# Altium footprint library WE-DPC.PcbLib: 3 footprints
Each footprint in its own frame and in the unit in brackets; x right, y up, seen from the top. Pads: shape width x height; smd on the part's side, far side on the other; paste and mask are expansions set on the pad; w line width, h text height; cw(c..) or ccw(c..) is an arc to the next point about the centre after c.
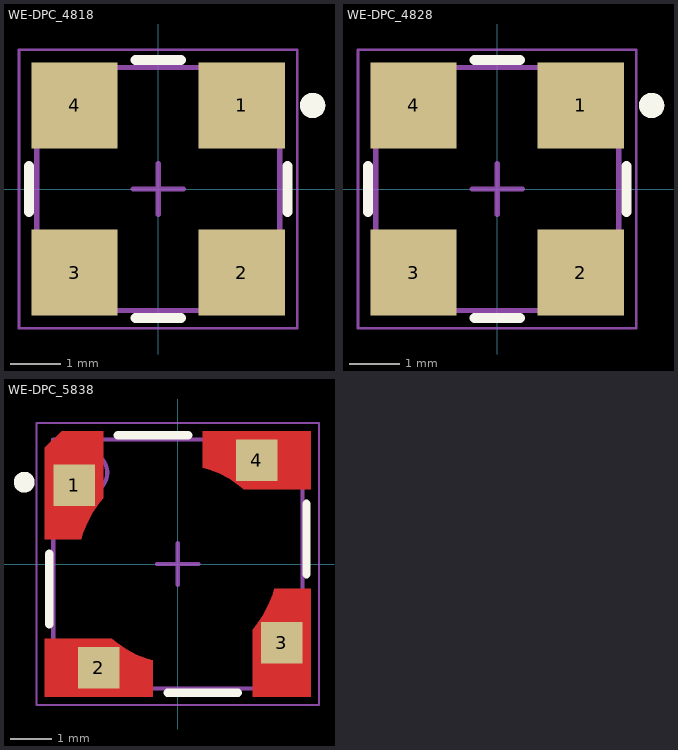
[diagram p0: the footprints below, top view; thin cyan lines are the x and y axes]

## WE-DPC_4818 [mm] "SMD Dual Powerchoke, 4-leads, body 4.8x4.8mm"
height 1.8
pads (4):
  rect 1.7x1.7 smd: 1(1.65,1.65) 2(1.65,-1.65) 3(-1.65,-1.65) 4(-1.65,1.65)
Top Overlay:
  circle w0.25: c3.05,1.65 r0.125
  lines w0.2: -2.55,-0.45 -2.55,0.45 ; -0.45,-2.55 0.45,-2.55 ; -0.45,2.55 0.45,2.55 ; 2.55,-0.45 2.55,0.45
Top Assembly:
  circle w0.1: c1.9,1.9 r0.25
  lines w0.1: -2.4,-2.4 2.4,-2.4 2.4,2.4 -2.4,2.4 -2.4,-2.4
Top Designator:
  text ".Designator" at -3.647,-0.357 h1
Top 3D Body:
  circle w0.1: c1.9,1.9 r0.25
  lines w0.1: -2.4,-2.4 2.4,-2.4 2.4,2.4 -2.4,2.4 -2.4,-2.4
Top Courtyard:
  lines w0.05: -2.75,-2.75 -2.75,2.75 2.75,2.75 2.75,-2.75 -2.75,-2.75
Top Component Center:
  lines w0.1: -0.5,0 0.5,0 ; 0,-0.5 0,0.5
3D body "4818_7448842xxx.stp": height 1.8, standoff 0, extent -2.4,-2.4 2.4,2.4

## WE-DPC_4828 [mm] "SMD Dual Powerchoke, 4-leads, body 4.8x4.8mm"
height 2.8
pads (4):
  rect 1.7x1.7 smd: 1(1.65,1.65) 2(1.65,-1.65) 3(-1.65,-1.65) 4(-1.65,1.65)
Top Overlay:
  circle w0.25: c3.05,1.65 r0.125
  lines w0.2: -2.55,-0.45 -2.55,0.45 ; -0.45,-2.55 0.45,-2.55 ; -0.45,2.55 0.45,2.55 ; 2.55,-0.45 2.55,0.45
Top Assembly:
  circle w0.1: c1.9,1.9 r0.25
  lines w0.1: -2.4,-2.4 -2.4,2.4 2.4,2.4 2.4,-2.4 -2.4,-2.4
Top Designator:
  text ".Designator" at -3.647,-0.357 h1
Top 3D Body:
  circle w0.1: c1.9,1.9 r0.25
  lines w0.1: -2.4,-2.4 -2.4,2.4 2.4,2.4 2.4,-2.4 -2.4,-2.4
Top Courtyard:
  lines w0.05: -2.75,-2.75 2.75,-2.75 2.75,2.75 -2.75,2.75 -2.75,-2.75
Top Component Center:
  lines w0.1: -0.5,0 0.5,0 ; 0,-0.5 0,0.5
3D body "4828_7448843xxx.stp": height 2.8, standoff 0, extent -2.4,-2.4 2.4,2.4

## WE-DPC_5838 [mm] "SMD Dual Powerchoke, 4-leads, body 6x6mm"
height 4.1
pads (4):
  rect 1x1 smd paste-2539.97 mask-403.566: 1(-2.5,1.9) 2(-1.9,-2.5) 3(2.5,-1.9) 4(1.9,2.5)
Top Layer:
  region: 0.6,3.2 3.2,3.2 3.2,1.8 1.588,1.8 1.479,1.89 1.247,2.05 0.998,2.183 0.735,2.285 0.6,2.324
  region: 3.2,-0.6 3.2,-3.2 1.8,-3.2 1.8,-1.588 1.89,-1.479 2.05,-1.247 2.183,-0.998 2.285,-0.735 2.324,-0.6
  region: -0.6,-3.2 -3.2,-3.2 -3.2,-1.8 -1.588,-1.8 -1.479,-1.89 -1.247,-2.05 -0.998,-2.183 -0.735,-2.285 -0.6,-2.324
  region: -3.2,0.6 -3.2,2.8 -2.8,3.2 -1.8,3.2 -1.8,1.588 -1.89,1.479 -2.05,1.247 -2.183,0.998 -2.285,0.735 -2.324,0.6
Top Overlay:
  circle w0.25: c-3.7,1.97 r0.125
  lines w0.2: -3.1,-1.45 -3.1,0.25 ; -1.45,3.1 0.25,3.1 ; -0.25,-3.1 1.45,-3.1 ; 3.1,-0.25 3.1,1.45
Top Assembly:
  circle w0.1: c-2.2,2.2 r0.5
  lines w0.1: -3,-3 -3,3 3,3 3,-3 -3,-3
Top Designator:
  text ".Designator" at -3.647,-0.357 h1
Top 3D Body:
  circle w0.1: c-2.2,2.2 r0.5
  lines w0.1: -3,-3 -3,3 3,3 3,-3 -3,-3
Top Courtyard:
  lines w0.05: -3.4,-3.4 3.4,-3.4 3.4,3.4 -3.4,3.4 -3.4,-3.4
Top Component Center:
  lines w0.1: -0.5,0 0.5,0 ; 0,-0.5 0,0.5
3D body "6040_7448844xxx.stp": height 4.1, standoff 0, extent -3,-3 3,3